# EAGLE library part DIP-HEADER-WHITE-VERT(6P-1.5) (library Seeed-OPL-Connector)
320110040
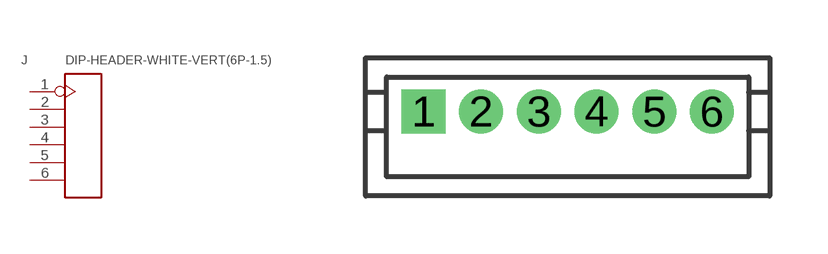
[diagram p95: symbol with the pads of H6-1.5-10.5X3.6MM; footprint H6-1.5-10.5X3.6MM]

Designator prefix J

## DIP-HEADER-WHITE-VERT(6P-1.5) (MPN: 1.5-6P; VALUE: 6p-1.5)  [H6-1.5-10.5X3.6MM]
1  1
2  2
3  3
4  4
5  5
6  6

## Footprint H6-1.5-10.5X3.6MM (pad centres in mm)
drill 0.635 pad 1.016 square: 1 -3.75,0
drill 0.635 pad 1.016: 2 -2.25,0; 3 -0.75,0; 4 0.75,0; 5 2.25,0; 6 3.75,0